# Altium footprint library GPA-PWR-06.PcbLib: 2 footprints
Each footprint in its own frame and in the unit in brackets; x right, y up, seen from the top. Pads: shape width x height; smd on the part's side, far side on the other; paste and mask are expansions set on the pad; w line width, h text height; cw(c..) or ccw(c..) is an arc to the next point about the centre after c.
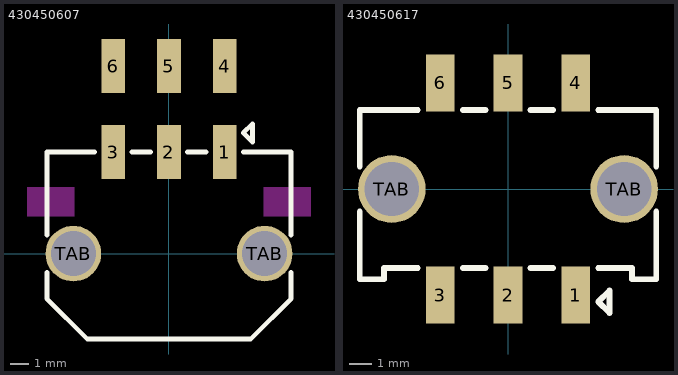
[diagram p0: the footprints below, top view; thin cyan lines are the x and y axes]

## 430450607 [mm]
pads (8):
  rect 1.27x2.92 smd: 1(3,5.47) 2(0,5.47) 3(-3,5.47) 4(3,10.1) 5(0,10.1) 6(-3,10.1)
  round 3 hole 2.41: TAB(-5.15,0) TAB(5.15,0)
Top Overlay:
  lines w0.254: -6.575,-1 -6.575,-2.425 -4.4,-4.6 4.4,-4.6 6.575,-2.425 6.575,-1 ; -6.575,1 -6.575,5.47 -4,5.47 ; -2,5.47 -1,5.47 ; 1,5.47 2,5.47 ; 4,5.47 6.575,5.47 6.575,1 ; 4,6.5 4.5,6 4.5,7 4,6.5
Keep-Out Layer:
  rectangle: 5.1,2 7.64,3.6
  region: -5.1,3.6 -7.64,3.6 -7.64,2 -5.1,2
3D body "430450607.stp": height 8.83, standoff -1.94, extent -6.575,-4.655 6.575,10.745

## 430450617 [mm]
pads (8):
  rect 1.27x2.54 smd: 1(3,-4.7) 2(0,-4.7) 3(-3,-4.7) 4(3,4.7) 5(0,4.7) 6(-3,4.7)
  round 3 hole 2.41: TAB(-5.15,0) TAB(5.15,0)
Top Overlay:
  lines w0.254: -6.575,-1 -6.575,-4 -5.5,-4 -5.5,-3.5 -4,-3.5 ; -6.575,1 -6.575,3.5 -4,3.5 ; -2,-3.5 -1,-3.5 ; -2,3.5 -1,3.5 ; 1,-3.5 2,-3.5 ; 1,3.5 2,3.5 ; 4,-3.5 5.5,-3.5 5.5,-4 6.575,-4 6.575,-1 ; 4,3.5 6.575,3.5 6.575,1 ; 4,-5 4.5,-5.5 4.5,-4.5 4,-5
3D body "430450617.stp": height 9.95, standoff -1.96, extent -6.575,-5.61 6.575,5.59